# Altium schematic symbol library SI1416EDH-T1-GE3.SchLib: 1 symbol
Pins are listed as number, name and electrical type; pins without a type are passive.

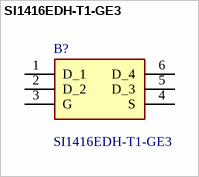
[diagram p0: symbol SI1416EDH-T1-GE3]

## SI1416EDH-T1-GE3
designator B?
Si1416EDH-T1-GE3 N-Channel MOSFET, 3.9 A, 30 V, 6-Pin SOT-363 Vishay; Geometry.Height: 1.1mm; Mouser Part Number: 78-SI1416EDH-T1-GE3; Mouser Price/Stock: https://www.mouser.co.uk/ProductDetail/Vishay-Semiconductors/SI1416EDH-T1-GE3?qs=pNKBmB2EQRiQP6xZUEPceg%3D%3D; Manufacturer_Name: Vishay; Manufacturer_Part_Number: SI1416EDH-T1-GE3; Datasheet Link: http://www.vishay.com/docs/67580/si1416ed.pdf
footprint SOT65P210X110-6N
pins: 1 D_1, 2 D_2, 3 G, 4 S, 5 D_3, 6 D_4